# EAGLE library part 52271-2269 (library molex)
CONNECTOR, FPC, 1.0MM, 22WAY
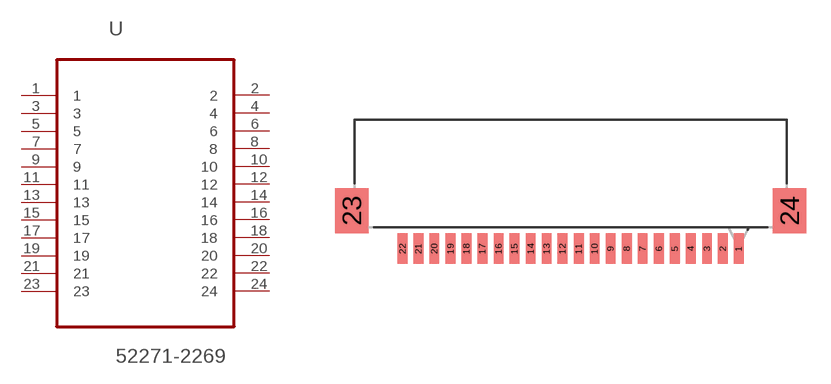
[diagram p14: symbol with the pads of MOLEX_52271-2269; footprint MOLEX_52271-2269]

Designator prefix U

## 52271-2269 (MPN: 52271-2269; OC_FARNELL: 1757093; OC_NEWARK: 92M5956; PACKAGE: CONNECTOR, FPC, 1.0MM, 22WAY; SUPPLIER: Molex)  [MOLEX_52271-2269]
1  1  pas
2  2  pas
3  3  pas
4  4  pas
5  5  pas
6  6  pas
7  7  pas
8  8  pas
9  9  pas
10  10  pas
11  11  pas
12  12  pas
13  13  pas
14  14  pas
15  15  pas
16  16  pas
17  17  pas
18  18  pas
19  19  pas
20  20  pas
21  21  pas
22  22  pas
23  23  pas
24  24  pas

## Footprint MOLEX_52271-2269 (pad centres in mm)
smd 0.61 x 1.905: 1 10.49,4.699; 2 9.5,4.699; 3 8.509,4.699; 4 7.493,4.699; 5 6.502,4.699; 6 5.512,4.699; 7 4.496,4.699; 8 3.505,4.699; 9 2.489,4.699; 10 1.499,4.699; 11 0.508,4.699; 12 -0.508,4.699; 13 -1.499,4.699; 14 -2.489,4.699; 15 -3.505,4.699; 16 -4.496,4.699; 17 -5.512,4.699; 18 -6.502,4.699; 19 -7.493,4.699; 20 -8.509,4.699; 21 -9.5,4.699; 22 -10.49,4.699
smd 2.108 x 2.794: 23 -13.665,7.061; 24 13.665,7.061